# EAGLE library part 20P (library con-dg55)
DEGSON DG55 CONNECTOR
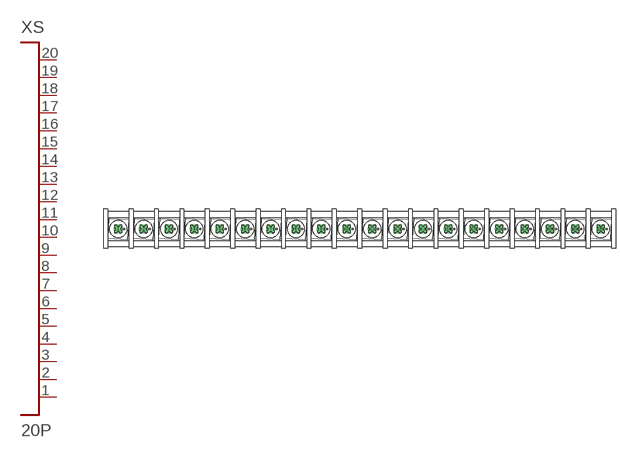
[diagram p14: symbol with the pads of DG55CB-20P-1; footprint DG55CB-20P-1]

Designator prefix XS

## 20P  [DG55CB-20P-1]
1  P$1
2  P$2
3  P$3
4  P$4
5  P$5
6  P$6
7  P$7
8  P$8
9  P$9
10  P$10
11  P$11
12  P$12
13  P$13
14  P$14
15  P$15
16  P$16
17  P$17
18  P$18
19  P$19
20  P$20

## Footprint DG55CB-20P-1 (pad centres in mm)
DG55
drill 1.8 pad 3.6: 1 -95,0; 2 -85,0; 3 -75,0; 4 -65,0; 5 -55,0; 6 -45,0; 7 -35,0; 8 -25,0; 9 -15,0; 10 -5,0; 11 5,0; 12 15,0; 13 25,0; 14 35,0; 15 45,0; 16 55,0; 17 65,0; 18 75,0; 19 85,0; 20 95,0